# EAGLE library part R-4PAK (library QuantumOptics)
Quad Resistor Pack
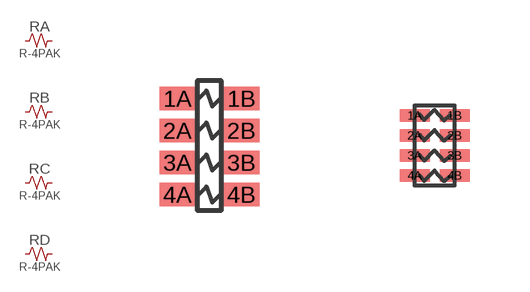
[diagram p52: symbol with the pads of PANASONIC_EXB-V8V(QUAD-R-PACK); footprints PANASONIC_EXB-V8V(QUAD-R-PACK), PANASONIC_EXB-28V]

Designator prefix R; gates A=R-H B=R-H C=R-H D=R-H

## R-4PAK-0603  [PANASONIC_EXB-V8V(QUAD-R-PACK)]
1A  A:P$1  pas
1B  A:P$2  pas
2A  B:P$1  pas
2B  B:P$2  pas
3A  C:P$1  pas
3B  C:P$2  pas
4A  D:P$1  pas
4B  D:P$2  pas

## R-4PAK-0402  [PANASONIC_EXB-28V]
Pads as for PANASONIC_EXB-V8V(QUAD-R-PACK)

## Footprint PANASONIC_EXB-V8V(QUAD-R-PACK) (pad centres in mm)
EXB-V8V-vvvJV, Panasonic quad resistor pack, each R is 0603, 5%, where value "vvv" is two significant digits and decade multiplier. http://www.panasonic.com/industrial/components/pdf/aoc0000ce1.pdf
smd 0.9 x 0.59: 1A -0.8,1.2; 1B 0.8,1.2; 2A -0.8,0.4; 2B 0.8,0.4; 3A -0.8,-0.4; 3B 0.8,-0.4; 4A -0.8,-1.2; 4B 0.8,-1.2

## Footprint PANASONIC_EXB-28V (pad centres in mm)
EXB-28V-vvvJV, Panasonic quad resistor pack, each R is 1005 (old 0402), 5%, where value "vvv" is two significant digits and decade multiplier. http://www.panasonic.com/industrial/components/pdf/aoc0000ce1.pdf
smd 0.75 x 0.31: 1A -1,1; 1B 0,1; 2A -1,0.5; 2B 0,0.5; 3A -1,0; 3B 0,0; 4A -1,-0.5; 4B 0,-0.5